# Altium footprint library KST5551MTF.PcbLib: 3 footprints
Each footprint in its own frame and in the unit in brackets; x right, y up, seen from the top. Pads: shape width x height; smd on the part's side, far side on the other; paste and mask are expansions set on the pad; w line width, h text height; cw(c..) or ccw(c..) is an arc to the next point about the centre after c.
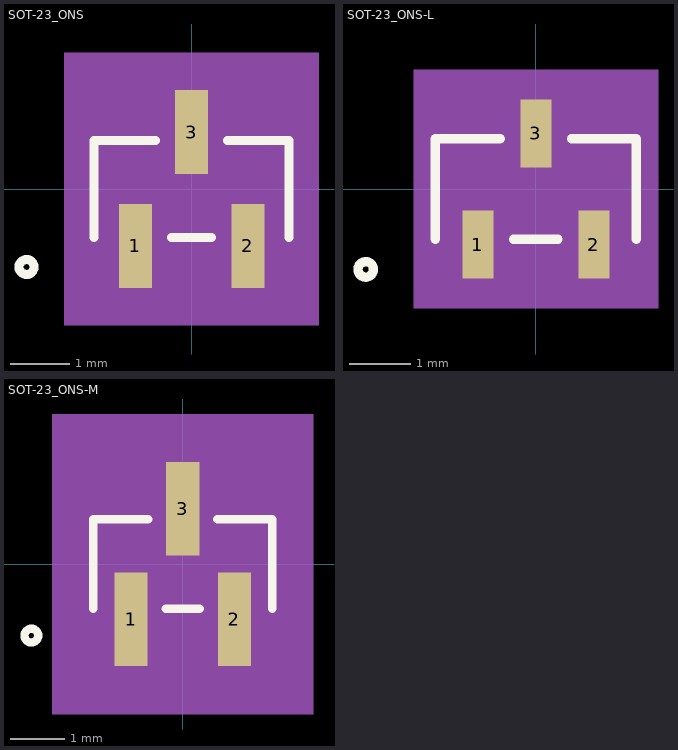
[diagram p0: the footprints below, top view; thin cyan lines are the x and y axes]

## SOT-23_ONS [mil]
pads (3):
  rect 22x56 smd paste+0 mask+0: 1(-37.5,-38) 2(37.5,-38) 3(0,38)
Top Overlay:
  circle w6: c-110,-52 r5
  lines w6: -65,-32.5 -65,32.5 -24.1,32.5 ; -13.4,-32.5 13.4,-32.5 ; 24.1,32.5 65,32.5 65,-32.5
Mechanical 5:
  region: -85,91 85,91 85,-91 -85,-91
Mechanical 13:
  circle w0: c-50,-17.5 r5
  lines w1: -60,-27.5 60,-27.5 60,27.5 -60,27.5 -60,-27.5 ; -47.5,-52 -47.5,-27.5 -27.5,-27.5 -27.5,-52 -47.5,-52 ; -10,27.5 10,27.5 10,52 -10,52 -10,27.5 ; 27.5,-52 27.5,-27.5 47.5,-27.5 47.5,-52 27.5,-52
Mechanical 15:
  region: -70,-37.5 -70,37.5 -21,37.5 -21,76 21,76 21,37.5 70,37.5 70,-37.5 58.5,-37.5 58.5,-76 -58.5,-76 -58.5,-37.5
  region: 60,-27.5 -60,-27.5 -60,27.5 60,27.5
  lines w6: -70,-37.5 -70,37.5 -21,37.5 -21,76 21,76 21,37.5 70,37.5 70,-37.5 58.5,-37.5 58.5,-76 -58.5,-76 -58.5,-37.5 -70,-37.5
3D body "SOT-23_ONS.step": height 44.09, standoff 0, extent -60,-52.01 60,52.01

## SOT-23_ONS-L [mil]
pads (3):
  rect 20x44 smd paste+0 mask+0: 1(-37.5,-36) 2(37.5,-36) 3(0,36)
Top Overlay:
  circle w6: c-110,-52 r5
  lines w6: -65,-32.5 -65,32.5 -23.1,32.5 ; -14.4,-32.5 14.4,-32.5 ; 23.1,32.5 65,32.5 65,-32.5
Mechanical 5:
  region: -79,77 79,77 79,-77 -79,-77
Mechanical 13:
  circle w0: c-50,-17.5 r5
  lines w1: -60,-27.5 60,-27.5 60,27.5 -60,27.5 -60,-27.5 ; -47.5,-52 -47.5,-27.5 -27.5,-27.5 -27.5,-52 -47.5,-52 ; -10,27.5 10,27.5 10,52 -10,52 -10,27.5 ; 27.5,-52 27.5,-27.5 47.5,-27.5 47.5,-52 27.5,-52
Mechanical 15:
  region: -64,-31.5 -64,31.5 -14,31.5 -14,62 14,62 14,31.5 64,31.5 64,-31.5 51.5,-31.5 51.5,-62 -51.5,-62 -51.5,-31.5
  region: 60,-27.5 -60,-27.5 -60,27.5 60,27.5
  lines w6: -64,-31.5 -64,31.5 -14,31.5 -14,62 14,62 14,31.5 64,31.5 64,-31.5 51.5,-31.5 51.5,-62 -51.5,-62 -51.5,-31.5 -64,-31.5
3D body "SOT-23_ONS.step": height 44.09, standoff 0, extent -60,-52.01 60,52.01

## SOT-23_ONS-M [mil]
pads (3):
  rect 24x68 smd paste+0 mask+0: 1(-37.5,-40) 2(37.5,-40) 3(0,40)
Top Overlay:
  circle w6: c-110,-52 r5
  lines w6: -65,-32.5 -65,32.5 -25.1,32.5 ; -12.4,-32.5 12.4,-32.5 ; 25.1,32.5 65,32.5 65,-32.5
Mechanical 5:
  region: -95,109 95,109 95,-109 -95,-109
Mechanical 13:
  circle w0: c-50,-17.5 r5
  lines w1: -60,-27.5 60,-27.5 60,27.5 -60,27.5 -60,-27.5 ; -47.5,-52 -47.5,-27.5 -27.5,-27.5 -27.5,-52 -47.5,-52 ; -10,27.5 10,27.5 10,52 -10,52 -10,27.5 ; 27.5,-52 27.5,-27.5 47.5,-27.5 47.5,-52 27.5,-52
Mechanical 15:
  region: -80,-47.5 -80,47.5 -32,47.5 -32,94 32,94 32,47.5 80,47.5 80,-47.5 69.5,-47.5 69.5,-94 -69.5,-94 -69.5,-47.5
  region: 60,-27.5 -60,-27.5 -60,27.5 60,27.5
  lines w6: -80,-47.5 -80,47.5 -32,47.5 -32,94 32,94 32,47.5 80,47.5 80,-47.5 69.5,-47.5 69.5,-94 -69.5,-94 -69.5,-47.5 -80,-47.5
3D body "SOT-23_ONS.step": height 44.09, standoff 0, extent -60,-52.01 60,52.01